# Altium footprint library Hirose.PcbLib: 3 footprints
Each footprint in its own frame and in the unit in brackets; x right, y up, seen from the top. Pads: shape width x height; smd on the part's side, far side on the other; paste and mask are expansions set on the pad; w line width, h text height; cw(c..) or ccw(c..) is an arc to the next point about the centre after c.
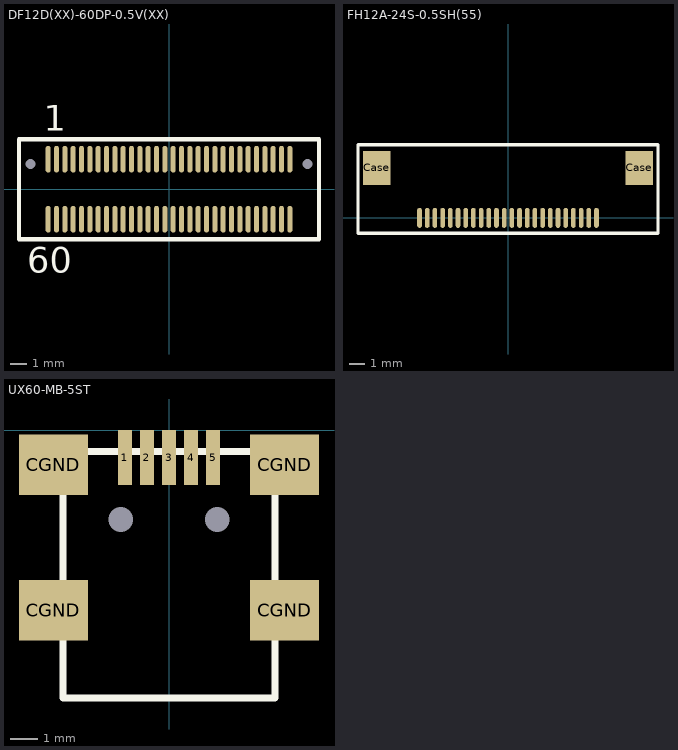
[diagram p0: the footprints below, top view; thin cyan lines are the x and y axes]

## DF12D(XX)-60DP-0.5V(XX) [mm] "0.5mm Pitch SMT Board to Board Connector"
pads (62):
  oval 0.3x1.6 smd: 1(-7.25,1.8) 2(-6.75,1.8) 3(-6.25,1.8) 4(-5.75,1.8) 5(-5.25,1.8) 6(-4.75,1.8) 7(-4.25,1.8) 8(-3.75,1.8) 9(-3.25,1.8) 10(-2.75,1.8) 11(-2.25,1.8) 12(-1.75,1.8) 13(-1.25,1.8) 14(-0.75,1.8) 15(-0.25,1.8) 16(0.25,1.8) 17(0.75,1.8) 18(1.25,1.8) 19(1.75,1.8) 20(2.25,1.8) 21(2.75,1.8) 22(3.25,1.8) 23(3.75,1.8) 24(4.25,1.8) 25(4.75,1.8) 26(5.25,1.8) 27(5.75,1.8) 28(6.25,1.8) 29(6.75,1.8) 30(7.25,1.8) 31(7.25,-1.8) 32(6.75,-1.8) 33(6.25,-1.8) 34(5.75,-1.8) 35(5.25,-1.8) 36(4.75,-1.8) 37(4.25,-1.8) 38(3.75,-1.8) 39(3.25,-1.8) 40(2.75,-1.8) 41(2.25,-1.8) 42(1.75,-1.8) 43(1.25,-1.8) 44(0.75,-1.8) 45(0.25,-1.8) 46(-0.25,-1.8) 47(-0.75,-1.8) 48(-1.25,-1.8) 49(-1.75,-1.8) 50(-2.25,-1.8) 51(-2.75,-1.8) 52(-3.25,-1.8) 53(-3.75,-1.8) 54(-4.25,-1.8) 55(-4.75,-1.8) 56(-5.25,-1.8) 57(-5.75,-1.8) 58(-6.25,-1.8) 59(-6.75,-1.8) 60(-7.25,-1.8)
  round 0 hole 0.6 unplated: ""(-8.3,1.5) ""(8.3,1.5)
Top Overlay:
  lines w0.254: -9,-3 -9,3 9,3 9,-3 -9,-3
  text "60" at -8.5,-5 h1.52
  text "1" at -7.5,3.5 h1.52

## FH12A-24S-0.5SH(55) [mm] "Ribbon Cable Connector 24 Pin"
pads (26):
  oval 0.3x1.3 smd: 1(-5.75,0) 2(-5.25,0) 3(-4.75,0) 4(-4.25,0) 5(-3.75,0) 6(-3.25,0) 7(-2.75,0) 8(-2.25,0) 9(-1.75,0) 10(-1.25,0) 11(-0.75,0) 12(-0.25,0) 13(0.25,0) 14(0.75,0) 15(1.25,0) 16(1.75,0) 17(2.25,0) 18(2.75,0) 19(3.25,0) 20(3.75,0) 21(4.25,0) 22(4.75,0) 23(5.25,0) 24(5.75,0)
  rect 1.8x2.2 smd: Case(-8.534,3.251) Case(8.534,3.251)
Top Overlay:
  lines w0.203: -9.75,-1 9.5,-1 9.75,-1 9.75,4.75 -9.75,4.75 -9.75,-1
3D body: height 2.05, standoff -0.1, extent -8.25,-0.25 8.25,6.75

## UX60-MB-5ST [mm] "miniUSB Type B Connector - Metal Shield SMT With Positioning Post"
pads (11):
  rect 0.5x2 smd: 1(-1.6,-1) 2(-0.8,-1) 3(0,-1) 4(0.8,-1) 5(1.6,-1)
  rect 0x0 hole 0.9 unplated: 11(1.75,-3.25) 12(-1.75,-3.25)
  rect 2.5x2.2 smd: CGND(-4.2,-6.55) CGND(-4.2,-1.25) CGND(4.2,-6.55) CGND(4.2,-1.25)
Top Overlay:
  lines w0.254: -3.85,-9.725 -3.85,-0.775 3.85,-0.775 3.85,-9.725 -3.85,-9.725
3D body: height 3.94, standoff -0.51, extent -4.95,-9.55 4.95,-0.55